# EAGLE library part 7-SEG_ (library display-kingbright-2)
Kingbright 14.2mm (0.56 INCH) SINGLE DIGIT NUMERIC DUISPLAY Source: SA56-11EWA(Ver1189471036.pdf
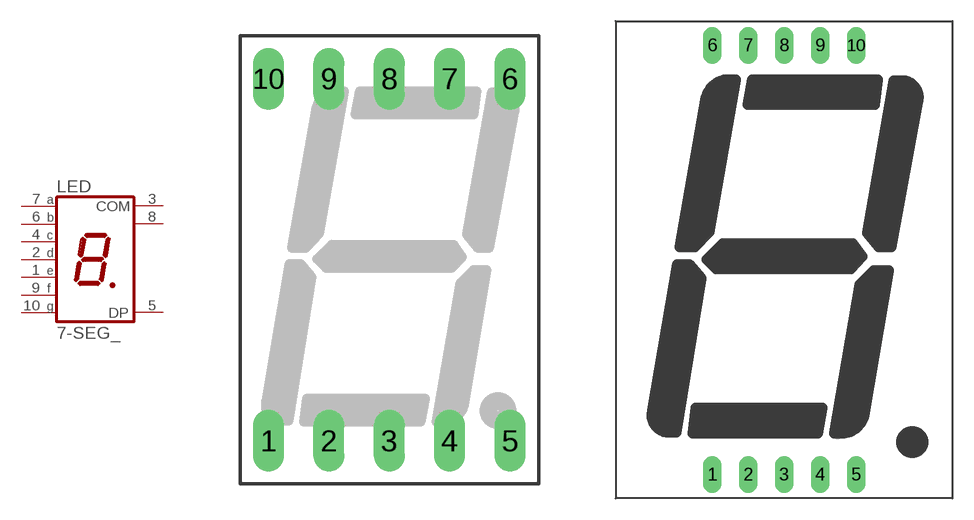
[diagram p0: symbol with the pads of SA56-11; footprints SA56-11, SA10-21]

Designator prefix LED

## 7-SEG_SA56-11  [SA56-11]
1  E  pas
2  D  pas
3  COM  pas
4  C  pas
5  DP  pas
6  B  pas
7  A  pas
8  COM  pas
9  F  pas
10  G  pas

## 7-SEG_SA10-21  [SA10-21]
Pads as for SA56-11

## 7-SEG_SA18-11  [SA18-11]
1  COM  pas
2  E  pas
3  D  pas
4  C  pas
5  COM  pas
6  B  pas
7  A  pas
8  DP  pas
9  F  pas
10  G  pas

## 7-SEG_SA52-11  [SA52-11]
Pads as for SA56-11

## 7-SEG_SA39-11SRWA  [SA39-11SRWA]
1  G  pas
2  F  pas
3  COM  pas
4  E  pas
5  D  pas
6  DP  pas
7  C  pas
8  COM  pas
9  B  pas
10  A  pas

## Footprint SA56-11 (pad centres in mm)
Kingbright 14.2mm (0.56 INCH) SINGLE DIGIT NUMERIC DUISPLAY Source: SA56-11EWA(Ver1189471036.pdf
drill 0.8 long: 1 -5.08,-7.62; 2 -2.54,-7.62; 3 0,-7.62; 4 2.54,-7.62; 5 5.08,-7.62; 6 5.08,7.62; 7 2.54,7.62; 8 0,7.62; 9 -2.54,7.62; 10 -5.08,7.62

## Footprint SA10-21 (pad centres in mm)
25.4mm (1.0 INCH) SINGLE DIGIT NUMERIC DISPLAY Source: SA10-21EWA(Ver1189472078.10).pdf
drill 0.8 long: 1 -5.08,-15.2; 2 -2.54,-15.2; 3 0,-15.2; 4 2.54,-15.2; 5 5.08,-15.2; 6 -5.08,15.2; 7 -2.54,15.2; 8 0,15.2; 9 2.54,15.2; 10 5.08,15.2

## Footprint SA18-11 (pad centres in mm)
44.5mm (1.75INCH) SINGLE DIGIT NUMERIC DISPLAY Source: SA18-11EWA(Ver1189472866.5).pdf
drill 0.7 pad 1.422 long: 1 -5.08,-24.13; 2 -2.54,-24.13; 3 0,-24.13; 4 2.54,-24.13; 5 5.08,-24.13; 6 5.08,24.13; 7 2.54,24.13; 8 0,24.13; 9 -2.54,24.13; 10 -5.08,24.13

## Footprint SA52-11 (pad centres in mm)
13.2mm (0.52INCH) SINGLE DIGIT NUMERIC DISPLAY Source: http://www.kingbright.com/manager/upload/pdf/SA52-11EWA(Ver1195708215.10)
drill 0.8: 1 -5.08,-7.62; 2 -2.54,-7.62; 3 0,-7.62; 4 2.54,-7.62; 5 5.08,-7.62; 6 5.08,7.62; 7 2.54,7.62; 8 0,7.62; 9 -2.54,7.62; 10 -5.08,7.62

## Footprint SA39-11SRWA (pad centres in mm)
drill 0.9 pad 1.5: 1 -3.81,5.08; 2 -3.81,2.54; 3 -3.81,0; 4 -3.81,-2.54; 5 -3.81,-5.08; 6 3.81,-5.08; 7 3.81,-2.54; 8 3.81,0; 9 3.81,2.54; 10 3.81,5.08